# EAGLE library part 93LC56 (library 0myLib)
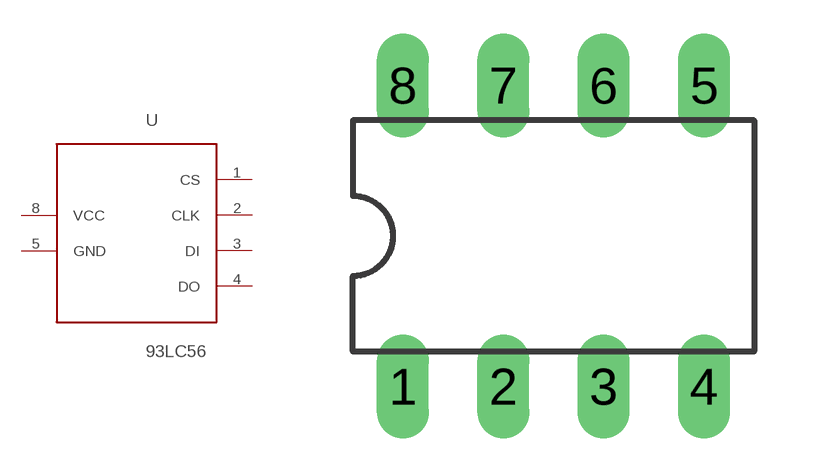
[diagram p62: symbol with the pads of DIL-08; footprint DIL-08]

Designator prefix -

## 93LC56  [DIL-08]
1  CS
2  CLK
3  DI
4  DO
5  GND
8  VCC

## Footprint DIL-08 (pad centres in mm)
Dual In Line Package
drill 0.813 long: 1 -3.81,-3.81; 2 -1.27,-3.81; 3 1.27,-3.81; 4 3.81,-3.81; 5 3.81,3.81; 6 1.27,3.81; 7 -1.27,3.81; 8 -3.81,3.81